# Altium footprint library LM1086CT-5.0_NOPB.PcbLib: 1 footprints
Each footprint in its own frame and in the unit in brackets; x right, y up, seen from the top. Pads: shape width x height; smd on the part's side, far side on the other; paste and mask are expansions set on the pad; w line width, h text height; cw(c..) or ccw(c..) is an arc to the next point about the centre after c.
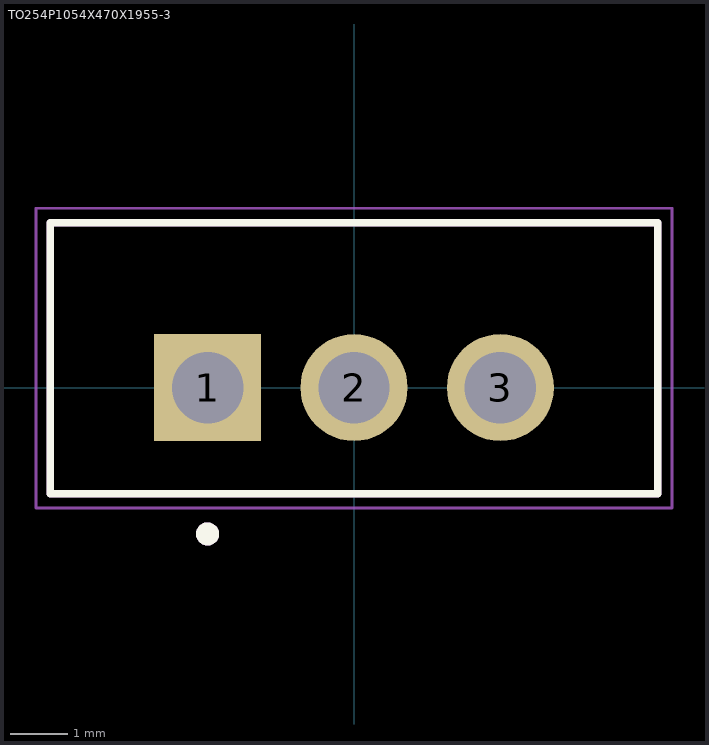
[diagram p0: the footprint, top view; thin cyan lines are the x and y axes]

## TO254P1054X470X1955-3 [mm]
pads (3):
  rect 1.86x1.86 hole 1.24: 1(-2.54,0)
  round 1.86 hole 1.24: 2(0,0) 3(2.54,0)
Top Overlay:
  circle w0.2: c-2.54,-2.54 r0.1
  lines w0.127: -5.27,-1.84 5.27,-1.84 5.27,2.86 -5.27,2.86 -5.27,-1.84
Mechanical 13:
  circle w0.2: c-2.54,-2.54 r0.1
  lines w0.127: -5.27,-1.84 5.27,-1.84 5.27,2.86 -5.27,2.86 -5.27,-1.84
Mechanical 15:
  lines w0.05: -5.52,-2.09 5.52,-2.09 5.52,3.11 -5.52,3.11 -5.52,-2.09
3D body "step_temp.STEP": height 22.86, standoff -8.38, extent -5.08,-1.485 5.08,2.71